# EAGLE library part IMX6D (library nxp)
IC MPU I.MX6D 1.0GHZ 624FCBGA
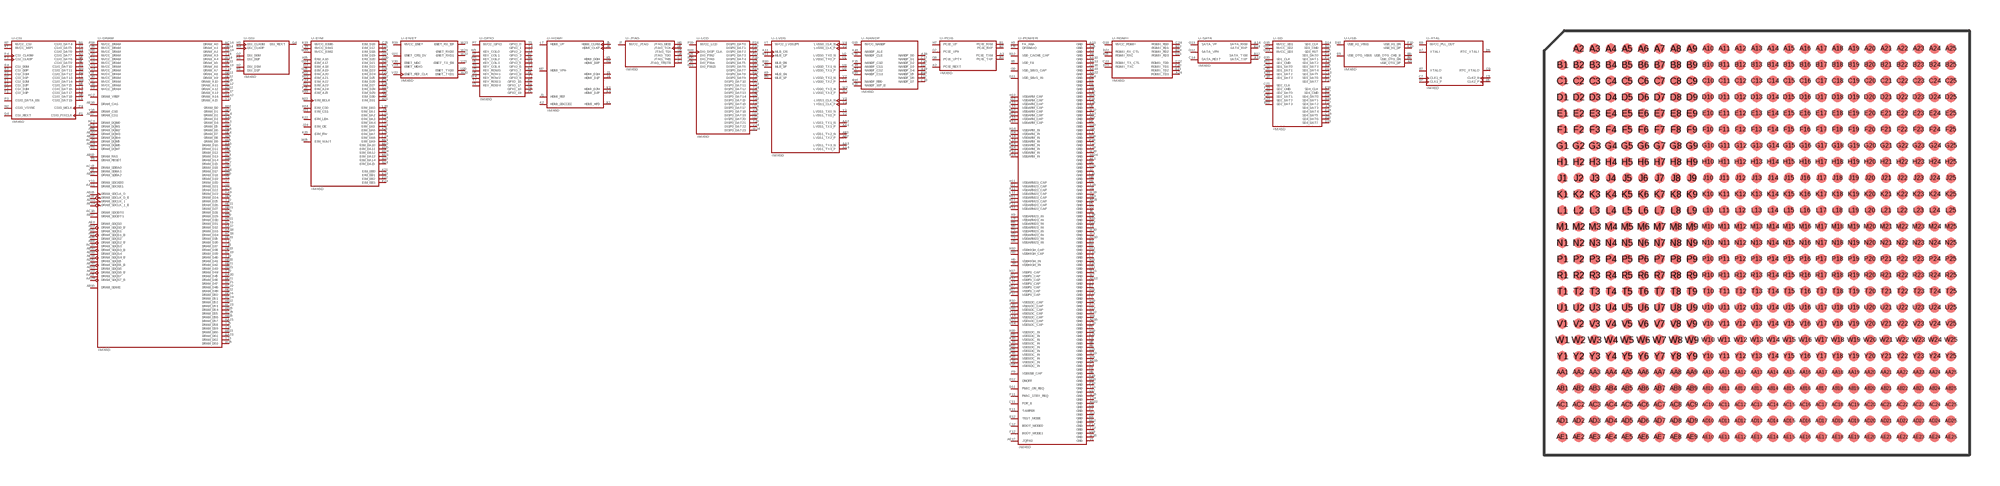
[diagram p1: symbol with the pads of FCPBGA-25X25; footprint FCPBGA-25X25]

Designator prefix U; gates -CSI=IMX6D-CSI -DRAM=IMX6D-DRAM -DSI=IMX6D-DSI -EIM=IMX6D-EIM -ENET=IMX6D-ENET -GPIO=IMX6D-GPIO -HDMI=IMX6D-HDMI -JTAG=IMX6D-JTAG -LCD=IMX6D-LCD -LVDS=IMX6D-LVDS -NANDF=IMX6D-NANDF -PCIE=IMX6D-PCIE -POWER=IMX6D-POWER -RGMII=IMX6D-RGMII -SATA=IMX6D-SATA -SD=IMX6D-SD -USB=IMX6D-USB -XTAL=IMX6D-XTAL

## IMX6D  [FCPBGA-25X25]
A2  -PCIE:PCIE_REXT  pwr
A3  -PCIE:PCIE_TXM
A4  -POWER:GND  pwr
A5  -POWER:FA_ANA  pwr
A6  -USB:USB_OTG_DP
A7  -XTAL:XTALI
A8  -POWER:GND  pwr
A9  -LVDS:MLB_SN
A10  -LVDS:MLB_DP
A11  -LVDS:MLB_CN
A12  -SATA:SATA_TXP
A13  -POWER:GND  pwr
A14  -SATA:SATA_RXM
A15  -SD:SD3_DAT2
A16  -NANDF:NANDF_ALE
A17  -NANDF:NANDF_CS2
A18  -NANDF:NANDF_D0
A19  -NANDF:NANDF_D4
A20  -SD:SD4_DAT3
A21  -SD:SD1_DAT0
A22  -SD:SD2_DAT0
A23  -SD:SD2_DAT2
A24  -RGMII:RGMII_TD3
A25  -POWER:GND  pwr
AA1  -LVDS:LVDS1_TX1_P
AA2  -LVDS:LVDS1_TX1_N
AA3  -LVDS:LVDS1_TX3_N
AA4  -LVDS:LVDS1_TX3_P
AA5  -DRAM:DRAM_D3
AA6  -DRAM:DRAM_D10
AA7  -POWER:GND  pwr
AA8  -DRAM:DRAM_D17
AA9  -DRAM:DRAM_D23
AA10  -POWER:GND  pwr
AA11  -DRAM:DRAM_SDCKE1
AA12  -DRAM:DRAM_A14
AA13  -POWER:GND  pwr
AA14  -DRAM:DRAM_A2
AA15  -DRAM:DRAM_A10
AA16  -POWER:GND  pwr
AA17  -DRAM:DRAM_D32
AA18  -DRAM:DRAM_D33
AA19  -POWER:GND  pwr
AA20  -DRAM:DRAM_D45
AA21  -DRAM:DRAM_D57
AA22  -POWER:GND  pwr
AA23  -DRAM:DRAM_D61
AA24  -DRAM:DRAM_SDQS7_B
AA25  -DRAM:DRAM_SDQS7
AB1  -LVDS:LVDS1_TX2_N
AB2  -LVDS:LVDS1_TX2_P
AB3  -POWER:GND  pwr
AB4  -DRAM:DRAM_D6
AB5  -DRAM:DRAM_D12
AB6  -DRAM:DRAM_D14
AB7  -DRAM:DRAM_D16
AB8  -DRAM:DRAM_DQM2
AB9  -DRAM:DRAM_D18
AB10  -DRAM:DRAM_SDQS3_B
AB11  -DRAM:DRAM_D27
AB12  -DRAM:DRAM_SDBA2
AB13  -DRAM:DRAM_A8
AB14  -DRAM:DRAM_A1
AB15  -DRAM:DRAM_RAS
AB16  -DRAM:DRAM_SDWE
AB17  -DRAM:DRAM_SDODT1
AB18  -DRAM:DRAM_DQM4
AB19  -DRAM:DRAM_D38
AB20  -DRAM:DRAM_D41
AB21  -DRAM:DRAM_D42
AB22  -DRAM:DRAM_D52
AB23  -DRAM:DRAM_D60
AB24  -POWER:GND  pwr
AB25  -DRAM:DRAM_D56
AC1  -DRAM:DRAM_D4
AC2  -DRAM:DRAM_VREF  pwr
AC3  -DRAM:DRAM_DQM0
AC4  -DRAM:DRAM_D2
AC5  -DRAM:DRAM_D13
AC6  -DRAM:DRAM_DQM1
AC7  -DRAM:DRAM_D15
AC8  -DRAM:DRAM_D22
AC9  -DRAM:DRAM_D28
AC10  -DRAM:DRAM_SDQS3
AC11  -DRAM:DRAM_D31
AC12  -DRAM:DRAM_A11
AC13  -DRAM:DRAM_A6
AC14  -DRAM:DRAM_A0
AC15  -DRAM:DRAM_SDBA0
AC16  -DRAM:DRAM_SDODT0
AC17  -DRAM:DRAM_A13
AC18  -DRAM:DRAM_D34
AC19  -DRAM:DRAM_D39
AC20  -DRAM:DRAM_DQM5
AC21  -DRAM:DRAM_D47
AC22  -DRAM:DRAM_D48
AC23  -DRAM:DRAM_D53
AC24  -DRAM:DRAM_D51
AC25  -DRAM:DRAM_D55
AD1  -DRAM:DRAM_D5
AD2  -DRAM:DRAM_D0
AD3  -DRAM:DRAM_SDQS0_B
AD4  -POWER:GND  pwr
AD5  -DRAM:DRAM_D8
AD6  -DRAM:DRAM_SDQS1
AD7  -POWER:GND  pwr
AD8  -DRAM:DRAM_SDQS2
AD9  -DRAM:DRAM_D29
AD10  -POWER:GND  pwr
AD11  -DRAM:DRAM_D30
AD12  -DRAM:DRAM_A12
AD13  -POWER:GND  pwr
AD14  -DRAM:DRAM_SDCLK_1
AD15  -DRAM:DRAM_SDCLK_0
AD16  -POWER:GND  pwr
AD17  -DRAM:DRAM_CS1
AD18  -DRAM:DRAM_SDQS4
AD19  -POWER:GND  pwr
AD20  -DRAM:DRAM_SDQS5
AD21  -DRAM:DRAM_D43
AD22  -POWER:GND  pwr
AD23  -DRAM:DRAM_SDQS6
AD24  -DRAM:DRAM_DQM6
AD25  -DRAM:DRAM_D54
AE1  -POWER:GND  pwr
AE2  -DRAM:DRAM_D1
AE3  -DRAM:DRAM_SDQS0
AE4  -DRAM:DRAM_D7
AE5  -DRAM:DRAM_D9
AE6  -DRAM:DRAM_SDQS1_B
AE7  -DRAM:DRAM_D11
AE8  -DRAM:DRAM_SDQS2_B
AE9  -DRAM:DRAM_D24
AE10  -DRAM:DRAM_DQM3
AE11  -DRAM:DRAM_D26
AE12  -DRAM:DRAM_A9
AE13  -DRAM:DRAM_A5
AE14  -DRAM:DRAM_SDCLK_1_B
AE15  -DRAM:DRAM_SDCLK_0_B
AE16  -DRAM:DRAM_CAS
AE17  -POWER:ZQPAD  pwr
AE18  -DRAM:DRAM_SDQS4_B
AE19  -DRAM:DRAM_D35
AE20  -DRAM:DRAM_SDQS5_B
AE21  -DRAM:DRAM_D46
AE22  -DRAM:DRAM_D49
AE23  -DRAM:DRAM_SDQS6_B
AE24  -DRAM:DRAM_D50
AE25  -POWER:GND  pwr
B1  -PCIE:PCIE_RXM
B2  -PCIE:PCIE_RXP
B3  -PCIE:PCIE_TXP
B4  -POWER:GND  pwr
B5  -POWER:VDD_FA  pwr
B6  -USB:USB_OTG_DN
B7  -XTAL:XTALO
B8  -USB:USB_OTG_CHD_B
B9  -LVDS:MLB_SP
B10  -LVDS:MLB_DN
B11  -LVDS:MLB_CP
B12  -SATA:SATA_TXM
B13  -SD:SD3_CMD
B14  -SATA:SATA_RXP
B15  -SD:SD3_DAT3
B16  -NANDF:NANDF_RB0
B17  -SD:SD4_CMD
B18  -NANDF:NANDF_D5
B19  -SD:SD4_DAT1
B20  -SD:SD4_DAT6
B21  -SD:SD1_CMD
B22  -SD:SD2_DAT3
B23  -RGMII:RGMII_RD1
B24  -RGMII:RGMII_RD2
B25  -RGMII:RGMII_RXC
C1  -POWER:GND  pwr
C2  -JTAG:JTAG_TRSTB
C3  -JTAG:JTAG_TMS
C4  -POWER:GND  pwr
C5  -XTAL:CLK2_N
C6  -POWER:GND  pwr
C7  -XTAL:CLK1_N
C8  -POWER:GPANAIO  pwr
C9  -XTAL:RTC_XTALO
C10  -POWER:GND  pwr
C11  -POWER:POR_B
C12  -POWER:BOOT_MODE0
C13  -SD:SD3_DAT5
C14  -SATA:SATA_REXT  pwr
C15  -NANDF:NANDF_CLE
C16  -NANDF:NANDF_CS1
C17  -NANDF:NANDF_D1
C18  -NANDF:NANDF_D7
C19  -SD:SD4_DAT5
C20  -SD:SD1_DAT1
C21  -SD:SD2_CLK
C22  -RGMII:RGMII_TD0
C23  -RGMII:RGMII_TX_CTL
C24  -RGMII:RGMII_RD0
C25  -EIM:EIM_D16
D1  -CSI:CSI_D1M
D2  -CSI:CSI_D1P
D3  -POWER:GND  pwr
D4  -CSI:CSI_REXT  pwr
D5  -XTAL:CLK2_P
D6  -POWER:GND  pwr
D7  -XTAL:CLK1_P
D8  -POWER:GND  pwr
D9  -XTAL:RTC_XTALI
D10  -USB:USB_H1_VBUS  pwr
D11  -POWER:PMIC_ON_REQ
D12  -POWER:ONOFF
D13  -SD:SD3_DAT4
D14  -SD:SD3_CLK
D15  -SD:SD3_RST
D16  -NANDF:NANDF_CS3
D17  -NANDF:NANDF_D3
D18  -SD:SD4_DAT0
D19  -SD:SD4_DAT7
D20  -SD:SD1_CLK
D21  -RGMII:RGMII_TXC
D22  -RGMII:RGMII_RX_CTL
D23  -RGMII:RGMII_RD3
D24  -EIM:EIM_D18
D25  -EIM:EIM_D23
E1  -CSI:CSI_D2M
E2  -CSI:CSI_D2P
E3  -CSI:CSI_D0P
E4  -CSI:CSI_D0M
E5  -POWER:GND  pwr
E6  -POWER:GND  pwr
E7  -POWER:GND  pwr
E8  -XTAL:NVCC_PLL_OUT  pwr
E9  -USB:USB_OTG_VBUS  pwr
E10  -USB:USB_H1_DP
E11  -POWER:TAMPER
E12  -POWER:TEST_MODE
E13  -SD:SD3_DAT6
E14  -SD:SD3_DAT0
E15  -NANDF:NANDF_WP_B
E16  -SD:SD4_CLK
E17  -NANDF:NANDF_D6
E18  -SD:SD4_DAT4
E19  -SD:SD1_DAT2
E20  -SD:SD2_DAT1
E21  -RGMII:RGMII_TD2
E22  -EIM:EIM_EB2
E23  -EIM:EIM_D22
E24  -EIM:EIM_D26
E25  -EIM:EIM_D27
F1  -CSI:CSI_D3P
F2  -CSI:CSI_D3M
F3  -CSI:CSI_CLK0P
F4  -CSI:CSI_CLK0M
F5  -POWER:GND  pwr
F6  -POWER:GND  pwr
F7  -POWER:GND  pwr
F8  -POWER:GND  pwr
F9  -POWER:VDDUSB_CAP  pwr
F10  -USB:USB_H1_DN
F11  -POWER:PMIC_STBY_REQ
F12  -POWER:BOOT_MODE1
F13  -SD:SD3_DAT7
F14  -SD:SD3_DAT1
F15  -NANDF:NANDF_CS0
F16  -NANDF:NANDF_D2
F17  -SD:SD4_DAT2
F18  -SD:SD1_DAT3
F19  -SD:SD2_CMD
F20  -RGMII:RGMII_TD1
F21  -EIM:EIM_D17
F22  -EIM:EIM_D24
F23  -EIM:EIM_EB3
F24  -EIM:EIM_A22
F25  -EIM:EIM_A24
G1  -DSI:DSI_D0P
G2  -DSI:DSI_D0M
G3  -POWER:GND  pwr
G4  -DSI:DSI_REXT  pwr
G5  -JTAG:JTAG_TDI
G6  -JTAG:JTAG_TDO
G7  -PCIE:PCIE_VPH  pwr
G8  -PCIE:PCIE_VPTX  pwr
G9  -POWER:VDD_SNVS_CAP  pwr
G10  -POWER:GND  pwr
G11  -POWER:VDD_SNVS_IN  pwr
G12  -SATA:SATA_VPH  pwr
G13  -SATA:SATA_VP  pwr
G14  -SD:NVCC_SD3  pwr
G15  -NANDF:NVCC_NANDF  pwr
G16  -SD:NVCC_SD1  pwr
G17  -SD:NVCC_SD2  pwr
G18  -RGMII:NVCC_RGMII  pwr
G19  -POWER:GND  pwr
G20  -EIM:EIM_D20
G21  -EIM:EIM_D19
G22  -EIM:EIM_D25
G23  -EIM:EIM_D28
G24  -EIM:EIM_A17
G25  -EIM:EIM_A19
H1  -DSI:DSI_D1P
H2  -DSI:DSI_D1M
H3  -DSI:DSI_CLK0M
H4  -DSI:DSI_CLK0P
H5  -JTAG:JTAG_TCK
H6  -JTAG:JTAG_MOD
H7  -PCIE:PCIE_VP  pwr
H8  -POWER:GND  pwr
H9  -POWER:VDDHIGH_IN  pwr
H10  -POWER:VDDHIGH_CAP  pwr
H11  -POWER:VDDARM23_CAP  pwr
H12  -POWER:GND  pwr
H13  -POWER:VDDARM_CAP  pwr
H14  -POWER:VDDARM_IN  pwr
H15  -POWER:GND  pwr
H16  -POWER:VDDSOC_IN  pwr
H17  -POWER:VDDPU_CAP  pwr
H18  -POWER:GND  pwr
H19  -EIM:EIM_A25
H20  -EIM:EIM_D21
H21  -EIM:EIM_D31
H22  -EIM:EIM_A20
H23  -EIM:EIM_A21
H24  -EIM:EIM_CS0
H25  -EIM:EIM_A16
J1  -HDMI:HDMI_REF  pwr
J2  -POWER:GND  pwr
J3  -HDMI:HDMI_D1M  out
J4  -HDMI:HDMI_D1P  out
J5  -HDMI:HDMI_CLKM  out
J6  -HDMI:HDMI_CLKP  out
J7  -JTAG:NVCC_JTAG  pwr
J8  -POWER:GND  pwr
J9  -POWER:VDDHIGH_IN  pwr
J10  -POWER:VDDHIGH_CAP  pwr
J11  -POWER:VDDARM23_CAP  pwr
J12  -POWER:GND  pwr
J13  -POWER:VDDARM_CAP  pwr
J14  -POWER:VDDARM_IN  pwr
J15  -POWER:GND  pwr
J16  -POWER:VDDSOC_IN  pwr
J17  -POWER:VDDPU_CAP  pwr
J18  -POWER:GND  pwr
J19  -EIM:EIM_D29
J20  -EIM:EIM_D30
J21  -EIM:EIM_A23
J22  -EIM:EIM_A18
J23  -EIM:EIM_CS1
J24  -EIM:EIM_OE
J25  -EIM:EIM_DA1
K1  -HDMI:HDMI_HPD  out
K2  -HDMI:HDMI_DDCCEC  pwr
K3  -HDMI:HDMI_D2M  out
K4  -HDMI:HDMI_D2P  out
K5  -HDMI:HDMI_D0M  out
K6  -HDMI:HDMI_D0P  out
K7  -CSI:NVCC_MIPI  pwr
K8  -POWER:GND  pwr
K9  -POWER:VDDARM23_IN  pwr
K10  -POWER:GND  pwr
K11  -POWER:VDDARM23_CAP  pwr
K12  -POWER:GND  pwr
K13  -POWER:VDDARM_CAP  pwr
K14  -POWER:VDDARM_IN  pwr
K15  -POWER:GND  pwr
K16  -POWER:VDDSOC_IN  pwr
K17  -POWER:VDDPU_CAP  pwr
K18  -POWER:GND  pwr
K19  -EIM:NVCC_EIM0  pwr
K20  -EIM:EIM_RW
K21  -EIM:EIM_EB0
K22  -EIM:EIM_LBA
K23  -EIM:EIM_EB1
K24  -EIM:EIM_DA3
K25  -EIM:EIM_DA6
L1  -CSI:CSI0_DAT13
L2  -POWER:GND  pwr
L3  -CSI:CSI0_DAT17
L4  -CSI:CSI0_DAT16
L5  -POWER:GND  pwr
L6  -CSI:CSI0_DAT19
L7  -HDMI:HDMI_VP  pwr
L8  -POWER:GND  pwr
L9  -POWER:VDDARM23_IN  pwr
L10  -POWER:GND  pwr
L11  -POWER:VDDARM23_CAP  pwr
L12  -POWER:GND  pwr
L13  -POWER:VDDARM_CAP  pwr
L14  -POWER:VDDARM_IN  pwr
L15  -POWER:GND  pwr
L16  -POWER:VDDSOC_IN  pwr
L17  -POWER:VDDPU_CAP  pwr
L18  -POWER:GND  pwr
L19  -EIM:NVCC_EIM1  pwr
L20  -EIM:EIM_DA0
L21  -EIM:EIM_DA2
L22  -EIM:EIM_DA4
L23  -EIM:EIM_DA5
L24  -EIM:EIM_DA8
L25  -EIM:EIM_DA7
M1  -CSI:CSI0_DAT10
M2  -CSI:CSI0_DAT12
M3  -CSI:CSI0_DAT11
M4  -CSI:CSI0_DAT14
M5  -CSI:CSI0_DAT15
M6  -CSI:CSI0_DAT18
M7  -HDMI:HDMI_VPH  pwr
M8  -POWER:GND  pwr
M9  -POWER:VDDARM23_IN  pwr
M10  -POWER:GND  pwr
M11  -POWER:VDDARM23_CAP  pwr
M12  -POWER:GND  pwr
M13  -POWER:VDDARM_CAP  pwr
M14  -POWER:VDDARM_IN  pwr
M15  -POWER:GND  pwr
M16  -POWER:VDDSOC_IN  pwr
M17  -POWER:VDDPU_CAP  pwr
M18  -POWER:GND  pwr
M19  -EIM:NVCC_EIM2  pwr
M20  -EIM:EIM_DA11
M21  -EIM:EIM_DA9
M22  -EIM:EIM_DA10
M23  -EIM:EIM_DA13
M24  -EIM:EIM_DA12
M25  -EIM:EIM_WAIT
N1  -CSI:CSI0_DAT4
N2  -CSI:CSI0_VSYNC
N3  -CSI:CSI0_DAT7
N4  -CSI:CSI0_DAT6
N5  -CSI:CSI0_DAT9
N6  -CSI:CSI0_DAT8
N7  -CSI:NVCC_CSI  pwr
N8  -POWER:GND  pwr
N9  -POWER:VDDARM23_IN  pwr
N10  -POWER:GND  pwr
N11  -POWER:VDDARM23_CAP  pwr
N12  -POWER:VDD_CACHE_CAP  pwr
N13  -POWER:VDDARM_CAP  pwr
N14  -POWER:VDDARM_IN  pwr
N15  -POWER:GND  pwr
N16  -POWER:VDDSOC_IN  pwr
N17  -POWER:VDDPU_CAP  pwr
N18  -POWER:GND  pwr
N19  -LCD:DI0_DISP_CLK
N20  -LCD:DI0_PIN3
N21  -LCD:DI0_PIN15
N22  -EIM:EIM_BCLK
N23  -EIM:EIM_DA14
N24  -EIM:EIM_DA15
N25  -LCD:DI0_PIN2
P1  -CSI:CSI0_PIXCLK
P2  -CSI:CSI0_DAT5
P3  -CSI:CSI0_DATA_EN
P4  -CSI:CSI0_MCLK
P5  -GPIO:GPIO_19
P6  -GPIO:GPIO_18
P7  -GPIO:NVCC_GPIO  pwr
P8  -POWER:GND  pwr
P9  -POWER:VDDARM23_IN  pwr
P10  -POWER:GND  pwr
P11  -POWER:VDDARM23_CAP  pwr
P12  -POWER:GND  pwr
P13  -POWER:VDDARM_CAP  pwr
P14  -POWER:VDDARM_IN  pwr
P15  -POWER:GND  pwr
P16  -POWER:VDDSOC_IN  pwr
P17  -POWER:VDDPU_CAP  pwr
P18  -POWER:GND  pwr
P19  -LCD:NVCC_LCD  pwr
P20  -LCD:DISP0_DAT4
P21  -LCD:DISP0_DAT3
P22  -LCD:DISP0_DAT1
P23  -LCD:DISP0_DAT2
P24  -LCD:DISP0_DAT0
P25  -LCD:DI0_PIN4
R1  -GPIO:GPIO_17
R2  -GPIO:GPIO_16
R3  -GPIO:GPIO_7
R4  -GPIO:GPIO_5
R5  -GPIO:GPIO_8
R6  -GPIO:GPIO_4
R7  -GPIO:GPIO_3
R8  -POWER:GND  pwr
R9  -POWER:VDDARM23_IN  pwr
R10  -POWER:VDDSOC_CAP  pwr
R11  -POWER:VDDARM23_CAP  pwr
R12  -POWER:GND  pwr
R13  -POWER:VDDARM_CAP  pwr
R14  -POWER:VDDARM_IN  pwr
R15  -POWER:GND  pwr
R16  -POWER:VDDSOC_IN  pwr
R17  -POWER:GND  pwr
R18  -DRAM:NVCC_DRAM  pwr
R19  -ENET:NVCC_ENET  pwr
R20  -LCD:DISP0_DAT13
R21  -LCD:DISP0_DAT10
R22  -LCD:DISP0_DAT8
R23  -LCD:DISP0_DAT6
R24  -LCD:DISP0_DAT7
R25  -LCD:DISP0_DAT5
T1  -GPIO:GPIO_2
T2  -GPIO:GPIO_9
T3  -GPIO:GPIO_6
T4  -GPIO:GPIO_1
T5  -GPIO:GPIO_0
T6  -GPIO:KEY_COL4
T7  -GPIO:KEY_ROW3
T8  -POWER:GND  pwr
T9  -POWER:VDDARM23_IN  pwr
T10  -POWER:VDDSOC_CAP  pwr
T11  -POWER:GND  pwr
T12  -POWER:GND  pwr
T13  -POWER:VDDSOC_CAP  pwr
T14  -POWER:VDDSOC_CAP  pwr
T15  -POWER:GND  pwr
T16  -POWER:VDDSOC_IN  pwr
T17  -POWER:GND  pwr
T18  -DRAM:NVCC_DRAM  pwr
T19  -POWER:GND  pwr
T20  -LCD:DISP0_DAT21
T21  -LCD:DISP0_DAT16
T22  -LCD:DISP0_DAT15
T23  -LCD:DISP0_DAT11
T24  -LCD:DISP0_DAT12
T25  -LCD:DISP0_DAT9
U1  -LVDS:LVDS0_TX0_P
U2  -LVDS:LVDS0_TX0_N
U3  -LVDS:LVDS0_TX1_P
U4  -LVDS:LVDS0_TX1_N
U5  -GPIO:KEY_COL3
U6  -GPIO:KEY_ROW1
U7  -GPIO:KEY_COL1
U8  -POWER:GND  pwr
U9  -POWER:VDDARM23_IN  pwr
U10  -POWER:VDDSOC_CAP  pwr
U11  -POWER:GND  pwr
U12  -POWER:GND  pwr
U13  -POWER:VDDSOC_CAP  pwr
U14  -POWER:VDDSOC_CAP  pwr
U15  -POWER:GND  pwr
U16  -POWER:VDDSOC_IN  pwr
U17  -POWER:GND  pwr
U18  -DRAM:NVCC_DRAM  pwr
U19  -POWER:GND  pwr
U20  -ENET:ENET_TXD0
U21  -ENET:ENET_CRS_DV
U22  -LCD:DISP0_DAT20
U23  -LCD:DISP0_DAT19
U24  -LCD:DISP0_DAT17
U25  -LCD:DISP0_DAT14
V1  -LVDS:LVDS0_TX2_P
V2  -LVDS:LVDS0_TX2_N
V3  -LVDS:LVDS0_CLK_P
V4  -LVDS:LVDS0_CLK_N
V5  -GPIO:KEY_ROW4
V6  -GPIO:KEY_ROW0
V7  -LVDS:NVCC_LVDS2P5  pwr
V8  -POWER:GND  pwr
V9  -DRAM:NVCC_DRAM  pwr
V10  -DRAM:NVCC_DRAM  pwr
V11  -DRAM:NVCC_DRAM  pwr
V12  -DRAM:NVCC_DRAM  pwr
V13  -DRAM:NVCC_DRAM  pwr
V14  -DRAM:NVCC_DRAM  pwr
V15  -DRAM:NVCC_DRAM  pwr
V16  -DRAM:NVCC_DRAM  pwr
V17  -DRAM:NVCC_DRAM  pwr
V18  -DRAM:NVCC_DRAM  pwr
V19  -POWER:GND  pwr
V20  -ENET:ENET_MDC
V21  -ENET:ENET_TX_EN
V22  -ENET:ENET_REF_CLK
V23  -ENET:ENET_MDIO
V24  -LCD:DISP0_DAT22
V25  -LCD:DISP0_DAT18
W1  -LVDS:LVDS0_TX3_P
W2  -LVDS:LVDS0_TX3_N
W3  -POWER:GND  pwr
W4  -GPIO:KEY_ROW2
W5  -GPIO:KEY_COL0
W6  -GPIO:KEY_COL2
W7  -POWER:GND  pwr
W8  -POWER:GND  pwr
W9  -POWER:GND  pwr
W10  -POWER:GND  pwr
W11  -POWER:GND  pwr
W12  -POWER:GND  pwr
W13  -POWER:GND  pwr
W14  -DRAM:DRAM_A4
W15  -POWER:GND  pwr
W16  -POWER:GND  pwr
W17  -POWER:GND  pwr
W18  -POWER:GND  pwr
W19  -POWER:GND  pwr
W20  -ENET:ENET_TXD1
W21  -ENET:ENET_RXD0
W22  -ENET:ENET_RXD1
W23  -ENET:ENET_RX_ER
W24  -LCD:DISP0_DAT23
W25  -DRAM:DRAM_D63
Y1  -LVDS:LVDS1_TX0_N
Y2  -LVDS:LVDS1_TX0_P
Y3  -LVDS:LVDS1_CLK_N
Y4  -LVDS:LVDS1_CLK_P
Y5  -POWER:GND  pwr
Y6  -DRAM:DRAM_RESET
Y7  -DRAM:DRAM_D20
Y8  -DRAM:DRAM_D21
Y9  -DRAM:DRAM_D19
Y10  -DRAM:DRAM_D25
Y11  -DRAM:DRAM_SDCKE0
Y12  -DRAM:DRAM_A15
Y13  -DRAM:DRAM_A7
Y14  -DRAM:DRAM_A3
Y15  -DRAM:DRAM_SDBA1
Y16  -DRAM:DRAM_CS0
Y17  -DRAM:DRAM_D36
Y18  -DRAM:DRAM_D37
Y19  -DRAM:DRAM_D40
Y20  -DRAM:DRAM_D44
Y21  -DRAM:DRAM_DQM7
Y22  -DRAM:DRAM_D59
Y23  -DRAM:DRAM_D62
Y24  -POWER:GND  pwr
Y25  -DRAM:DRAM_D58

## Footprint FCPBGA-25X25 (pad centres in mm)
smd 0.5 x 0.5: A2 -8.8,9.6; A3 -8,9.6; A4 -7.2,9.6; A5 -6.4,9.6; A6 -5.6,9.6; A7 -4.8,9.6; A8 -4,9.6; A9 -3.2,9.6; A10 -2.4,9.6; A11 -1.6,9.6; A12 -0.8,9.6; A13 0,9.6; A14 0.8,9.6; A15 1.6,9.6; A16 2.4,9.6; A17 3.2,9.6; A18 4,9.6; A19 4.8,9.6; A20 5.6,9.6; A21 6.4,9.6; A22 7.2,9.6; A23 8,9.6; A24 8.8,9.6; A25 9.6,9.6; AA1 -9.6,-6.4; AA2 -8.8,-6.4; AA3 -8,-6.4; AA4 -7.2,-6.4; AA5 -6.4,-6.4; AA6 -5.6,-6.4; AA7 -4.8,-6.4; AA8 -4,-6.4; AA9 -3.2,-6.4; AA10 -2.4,-6.4; AA11 -1.6,-6.4; AA12 -0.8,-6.4; AA13 0,-6.4; AA14 0.8,-6.4; AA15 1.6,-6.4; AA16 2.4,-6.4; AA17 3.2,-6.4; AA18 4,-6.4; AA19 4.8,-6.4; AA20 5.6,-6.4; AA21 6.4,-6.4; AA22 7.2,-6.4; AA23 8,-6.4; AA24 8.8,-6.4; AA25 9.6,-6.4; AB1 -9.6,-7.2; AB2 -8.8,-7.2; AB3 -8,-7.2; AB4 -7.2,-7.2; AB5 -6.4,-7.2; AB6 -5.6,-7.2; AB7 -4.8,-7.2; AB8 -4,-7.2; AB9 -3.2,-7.2; AB10 -2.4,-7.2; AB11 -1.6,-7.2; AB12 -0.8,-7.2; AB13 0,-7.2; AB14 0.8,-7.2; AB15 1.6,-7.2; AB16 2.4,-7.2; AB17 3.2,-7.2; AB18 4,-7.2; AB19 4.8,-7.2; AB20 5.6,-7.2; AB21 6.4,-7.2; AB22 7.2,-7.2; AB23 8,-7.2; AB24 8.8,-7.2; AB25 9.6,-7.2; AC1 -9.6,-8; AC2 -8.8,-8; AC3 -8,-8; AC4 -7.2,-8; AC5 -6.4,-8; AC6 -5.6,-8; AC7 -4.8,-8; AC8 -4,-8; AC9 -3.2,-8; AC10 -2.4,-8; AC11 -1.6,-8; AC12 -0.8,-8; AC13 0,-8; AC14 0.8,-8; AC15 1.6,-8; AC16 2.4,-8; AC17 3.2,-8; AC18 4,-8; AC19 4.8,-8; AC20 5.6,-8; AC21 6.4,-8; AC22 7.2,-8; AC23 8,-8; AC24 8.8,-8; AC25 9.6,-8; AD1 -9.6,-8.8; AD2 -8.8,-8.8; AD3 -8,-8.8; AD4 -7.2,-8.8; AD5 -6.4,-8.8; AD6 -5.6,-8.8; AD7 -4.8,-8.8; AD8 -4,-8.8; AD9 -3.2,-8.8; AD10 -2.4,-8.8; AD11 -1.6,-8.8; AD12 -0.8,-8.8; AD13 0,-8.8; AD14 0.8,-8.8; AD15 1.6,-8.8; AD16 2.4,-8.8; AD17 3.2,-8.8; AD18 4,-8.8; AD19 4.8,-8.8; AD20 5.6,-8.8; AD21 6.4,-8.8; AD22 7.2,-8.8; AD23 8,-8.8; AD24 8.8,-8.8; AD25 9.6,-8.8; AE1 -9.6,-9.6; AE2 -8.8,-9.6; AE3 -8,-9.6; AE4 -7.2,-9.6; AE5 -6.4,-9.6; AE6 -5.6,-9.6; AE7 -4.8,-9.6; AE8 -4,-9.6; AE9 -3.2,-9.6; AE10 -2.4,-9.6; AE11 -1.6,-9.6; AE12 -0.8,-9.6; AE13 0,-9.6; AE14 0.8,-9.6; AE15 1.6,-9.6; AE16 2.4,-9.6; AE17 3.2,-9.6; AE18 4,-9.6; AE19 4.8,-9.6; AE20 5.6,-9.6; AE21 6.4,-9.6; AE22 7.2,-9.6; AE23 8,-9.6; AE24 8.8,-9.6; AE25 9.6,-9.6; B1 -9.6,8.8; B2 -8.8,8.8; B3 -8,8.8; B4 -7.2,8.8; B5 -6.4,8.8; B6 -5.6,8.8; B7 -4.8,8.8; B8 -4,8.8; B9 -3.2,8.8; B10 -2.4,8.8; B11 -1.6,8.8; B12 -0.8,8.8; B13 0,8.8; B14 0.8,8.8; B15 1.6,8.8; B16 2.4,8.8; B17 3.2,8.8; B18 4,8.8; B19 4.8,8.8; B20 5.6,8.8; B21 6.4,8.8; B22 7.2,8.8; B23 8,8.8; B24 8.8,8.8; B25 9.6,8.8; C1 -9.6,8; C2 -8.8,8; C3 -8,8; C4 -7.2,8; C5 -6.4,8; C6 -5.6,8; C7 -4.8,8; C8 -4,8; C9 -3.2,8; C10 -2.4,8; C11 -1.6,8; C12 -0.8,8; C13 0,8; C14 0.8,8; C15 1.6,8; C16 2.4,8; C17 3.2,8; C18 4,8; C19 4.8,8; C20 5.6,8; C21 6.4,8; C22 7.2,8; C23 8,8; C24 8.8,8; C25 9.6,8; D1 -9.6,7.2; D2 -8.8,7.2; D3 -8,7.2; D4 -7.2,7.2; D5 -6.4,7.2; D6 -5.6,7.2; D7 -4.8,7.2; D8 -4,7.2; D9 -3.2,7.2; D10 -2.4,7.2; D11 -1.6,7.2; D12 -0.8,7.2; D13 0,7.2; D14 0.8,7.2; D15 1.6,7.2; D16 2.4,7.2; D17 3.2,7.2; D18 4,7.2; D19 4.8,7.2; D20 5.6,7.2; D21 6.4,7.2; D22 7.2,7.2; D23 8,7.2; D24 8.8,7.2; D25 9.6,7.2; E1 -9.6,6.4; E2 -8.8,6.4; E3 -8,6.4; E4 -7.2,6.4; E5 -6.4,6.4; E6 -5.6,6.4; E7 -4.8,6.4; E8 -4,6.4; E9 -3.2,6.4; E10 -2.4,6.4; E11 -1.6,6.4; E12 -0.8,6.4; E13 0,6.4; E14 0.8,6.4; E15 1.6,6.4; E16 2.4,6.4; E17 3.2,6.4; E18 4,6.4; E19 4.8,6.4; E20 5.6,6.4; E21 6.4,6.4; E22 7.2,6.4; E23 8,6.4; E24 8.8,6.4; E25 9.6,6.4; F1 -9.6,5.6; F2 -8.8,5.6; F3 -8,5.6; F4 -7.2,5.6; F5 -6.4,5.6; F6 -5.6,5.6; F7 -4.8,5.6; F8 -4,5.6; F9 -3.2,5.6; F10 -2.4,5.6; F11 -1.6,5.6; F12 -0.8,5.6; F13 0,5.6; F14 0.8,5.6; F15 1.6,5.6; F16 2.4,5.6; F17 3.2,5.6; F18 4,5.6; F19 4.8,5.6; F20 5.6,5.6; F21 6.4,5.6; F22 7.2,5.6; F23 8,5.6; F24 8.8,5.6; F25 9.6,5.6; G1 -9.6,4.8; G2 -8.8,4.8; G3 -8,4.8; G4 -7.2,4.8; G5 -6.4,4.8; G6 -5.6,4.8; G7 -4.8,4.8; G8 -4,4.8; G9 -3.2,4.8; G10 -2.4,4.8; G11 -1.6,4.8; G12 -0.8,4.8; G13 0,4.8; G14 0.8,4.8; G15 1.6,4.8; G16 2.4,4.8; G17 3.2,4.8; G18 4,4.8; G19 4.8,4.8; G20 5.6,4.8; G21 6.4,4.8; G22 7.2,4.8; G23 8,4.8; G24 8.8,4.8; G25 9.6,4.8; H1 -9.6,4; H2 -8.8,4; H3 -8,4; H4 -7.2,4; H5 -6.4,4; H6 -5.6,4; H7 -4.8,4; H8 -4,4; H9 -3.2,4; H10 -2.4,4; H11 -1.6,4; H12 -0.8,4; H13 0,4; H14 0.8,4; H15 1.6,4; H16 2.4,4; H17 3.2,4; H18 4,4; H19 4.8,4; H20 5.6,4; H21 6.4,4; H22 7.2,4; H23 8,4; H24 8.8,4; H25 9.6,4; J1 -9.6,3.2; J2 -8.8,3.2; J3 -8,3.2; J4 -7.2,3.2; J5 -6.4,3.2; J6 -5.6,3.2; J7 -4.8,3.2; J8 -4,3.2; J9 -3.2,3.2; J10 -2.4,3.2; J11 -1.6,3.2; J12 -0.8,3.2; J13 0,3.2; J14 0.8,3.2; J15 1.6,3.2; J16 2.4,3.2; J17 3.2,3.2; J18 4,3.2; J19 4.8,3.2; J20 5.6,3.2; J21 6.4,3.2; J22 7.2,3.2; J23 8,3.2; J24 8.8,3.2; J25 9.6,3.2; K1 -9.6,2.4; K2 -8.8,2.4; K3 -8,2.4; K4 -7.2,2.4; K5 -6.4,2.4; K6 -5.6,2.4; K7 -4.8,2.4; K8 -4,2.4; K9 -3.2,2.4; K10 -2.4,2.4; K11 -1.6,2.4; K12 -0.8,2.4; K13 0,2.4; K14 0.8,2.4; K15 1.6,2.4; K16 2.4,2.4; K17 3.2,2.4; K18 4,2.4; K19 4.8,2.4; K20 5.6,2.4; K21 6.4,2.4; K22 7.2,2.4; K23 8,2.4; K24 8.8,2.4; K25 9.6,2.4; L1 -9.6,1.6; L2 -8.8,1.6; L3 -8,1.6; L4 -7.2,1.6; L5 -6.4,1.6; L6 -5.6,1.6; L7 -4.8,1.6; L8 -4,1.6; L9 -3.2,1.6; L10 -2.4,1.6; L11 -1.6,1.6; L12 -0.8,1.6; L13 0,1.6; L14 0.8,1.6; L15 1.6,1.6; L16 2.4,1.6; L17 3.2,1.6; L18 4,1.6; L19 4.8,1.6; L20 5.6,1.6; L21 6.4,1.6; L22 7.2,1.6; L23 8,1.6; L24 8.8,1.6; L25 9.6,1.6; M1 -9.6,0.8; M2 -8.8,0.8; M3 -8,0.8; M4 -7.2,0.8; M5 -6.4,0.8; M6 -5.6,0.8; M7 -4.8,0.8; M8 -4,0.8; M9 -3.2,0.8; M10 -2.4,0.8; M11 -1.6,0.8; M12 -0.8,0.8; M13 0,0.8; M14 0.8,0.8; M15 1.6,0.8; M16 2.4,0.8; M17 3.2,0.8; M18 4,0.8; M19 4.8,0.8; M20 5.6,0.8; M21 6.4,0.8; M22 7.2,0.8; M23 8,0.8; M24 8.8,0.8; M25 9.6,0.8; N1 -9.6,0; N2 -8.8,0; N3 -8,0; N4 -7.2,0; N5 -6.4,0; N6 -5.6,0; N7 -4.8,0; N8 -4,0; N9 -3.2,0; N10 -2.4,0; N11 -1.6,0; N12 -0.8,0; N13 0,0; N14 0.8,0; N15 1.6,0; N16 2.4,0; N17 3.2,0; N18 4,0; N19 4.8,0; N20 5.6,0; N21 6.4,0; N22 7.2,0; N23 8,0; N24 8.8,0; N25 9.6,0; P1 -9.6,-0.8; P2 -8.8,-0.8; P3 -8,-0.8; P4 -7.2,-0.8; P5 -6.4,-0.8; P6 -5.6,-0.8; P7 -4.8,-0.8; P8 -4,-0.8; P9 -3.2,-0.8; P10 -2.4,-0.8; P11 -1.6,-0.8; P12 -0.8,-0.8; P13 0,-0.8; P14 0.8,-0.8; P15 1.6,-0.8; P16 2.4,-0.8; P17 3.2,-0.8; P18 4,-0.8; P19 4.8,-0.8; P20 5.6,-0.8; P21 6.4,-0.8; P22 7.2,-0.8; P23 8,-0.8; P24 8.8,-0.8; P25 9.6,-0.8; R1 -9.6,-1.6; R2 -8.8,-1.6; R3 -8,-1.6; R4 -7.2,-1.6; R5 -6.4,-1.6; R6 -5.6,-1.6; R7 -4.8,-1.6; R8 -4,-1.6; R9 -3.2,-1.6; R10 -2.4,-1.6; R11 -1.6,-1.6; R12 -0.8,-1.6; R13 0,-1.6; R14 0.8,-1.6; R15 1.6,-1.6; R16 2.4,-1.6; R17 3.2,-1.6; R18 4,-1.6; R19 4.8,-1.6; R20 5.6,-1.6; R21 6.4,-1.6; R22 7.2,-1.6; R23 8,-1.6; R24 8.8,-1.6; R25 9.6,-1.6; T1 -9.6,-2.4; T2 -8.8,-2.4; T3 -8,-2.4; T4 -7.2,-2.4; T5 -6.4,-2.4; T6 -5.6,-2.4; T7 -4.8,-2.4; T8 -4,-2.4; T9 -3.2,-2.4; T10 -2.4,-2.4; T11 -1.6,-2.4; T12 -0.8,-2.4; T13 0,-2.4; T14 0.8,-2.4; T15 1.6,-2.4; T16 2.4,-2.4; T17 3.2,-2.4; T18 4,-2.4; T19 4.8,-2.4; T20 5.6,-2.4; T21 6.4,-2.4; T22 7.2,-2.4; T23 8,-2.4; T24 8.8,-2.4; T25 9.6,-2.4; U1 -9.6,-3.2; U2 -8.8,-3.2; U3 -8,-3.2; U4 -7.2,-3.2; U5 -6.4,-3.2; U6 -5.6,-3.2; U7 -4.8,-3.2; U8 -4,-3.2; U9 -3.2,-3.2; U10 -2.4,-3.2; U11 -1.6,-3.2; U12 -0.8,-3.2; U13 0,-3.2; U14 0.8,-3.2; U15 1.6,-3.2; U16 2.4,-3.2; U17 3.2,-3.2; U18 4,-3.2; U19 4.8,-3.2; U20 5.6,-3.2; U21 6.4,-3.2; U22 7.2,-3.2; U23 8,-3.2; U24 8.8,-3.2; U25 9.6,-3.2; V1 -9.6,-4; V2 -8.8,-4; V3 -8,-4; V4 -7.2,-4; V5 -6.4,-4; V6 -5.6,-4; V7 -4.8,-4; V8 -4,-4; V9 -3.2,-4; V10 -2.4,-4; V11 -1.6,-4; V12 -0.8,-4; V13 0,-4; V14 0.8,-4; V15 1.6,-4; V16 2.4,-4; V17 3.2,-4; V18 4,-4; V19 4.8,-4; V20 5.6,-4; V21 6.4,-4; V22 7.2,-4; V23 8,-4; V24 8.8,-4; V25 9.6,-4; W1 -9.6,-4.8; W2 -8.8,-4.8; W3 -8,-4.8; W4 -7.2,-4.8; W5 -6.4,-4.8; W6 -5.6,-4.8; W7 -4.8,-4.8; W8 -4,-4.8; W9 -3.2,-4.8; W10 -2.4,-4.8; W11 -1.6,-4.8; W12 -0.8,-4.8; W13 0,-4.8; W14 0.8,-4.8; W15 1.6,-4.8; W16 2.4,-4.8; W17 3.2,-4.8; W18 4,-4.8; W19 4.8,-4.8; W20 5.6,-4.8; W21 6.4,-4.8; W22 7.2,-4.8; W23 8,-4.8; W24 8.8,-4.8; W25 9.6,-4.8; Y1 -9.6,-5.6; Y2 -8.8,-5.6; Y3 -8,-5.6; Y4 -7.2,-5.6; Y5 -6.4,-5.6; Y6 -5.6,-5.6; Y7 -4.8,-5.6; Y8 -4,-5.6; Y9 -3.2,-5.6; Y10 -2.4,-5.6; Y11 -1.6,-5.6; Y12 -0.8,-5.6; Y13 0,-5.6; Y14 0.8,-5.6; Y15 1.6,-5.6; Y16 2.4,-5.6; Y17 3.2,-5.6; Y18 4,-5.6; Y19 4.8,-5.6; Y20 5.6,-5.6; Y21 6.4,-5.6; Y22 7.2,-5.6; Y23 8,-5.6; Y24 8.8,-5.6; Y25 9.6,-5.6